# Altium schematic symbol library ESP8266V1.2.SCHLIB: 15 symbols
Pins are listed as number, name and electrical type; pins without a type are passive.

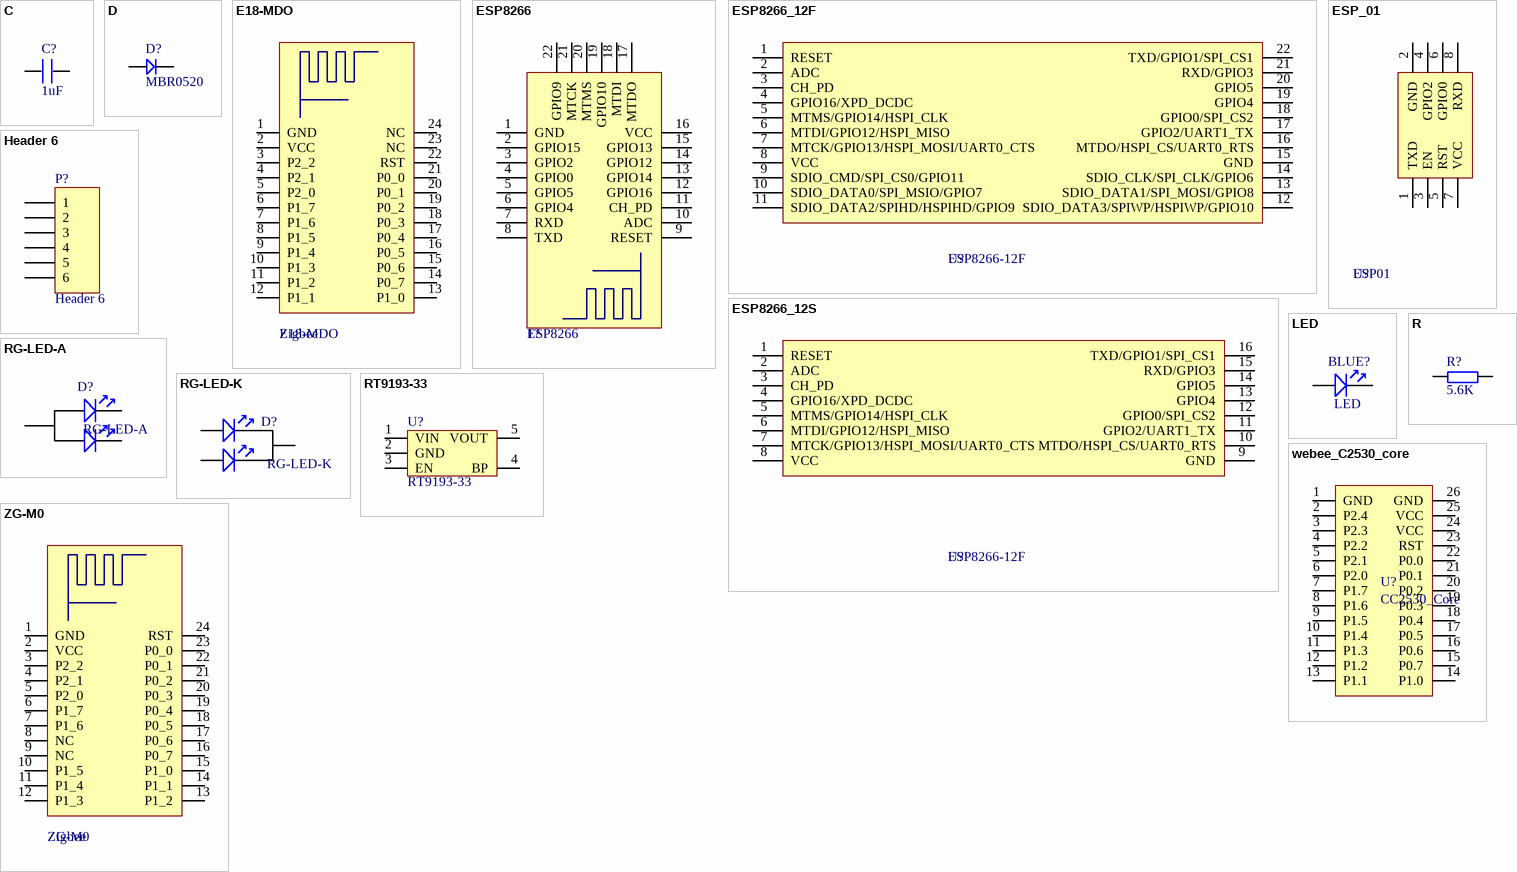
[diagram p0: symbols C to ZG-M0]

## C
designator C?, comment 1uF
footprint 0603P
footprint 0805
footprint CC5.08 (CAP0.1)
footprint CC4.572 (222/332)
footprint 1206
footprint 1210
footprint CC6.096
footprint CC7.62
footprint CVAR (4MM*6.6MM)
pins: 1, 2

## D
designator D?, comment MBR0520
1N4148
footprint SOD-123
footprint DIODE_SOP (4148)
footprint DIODE-L (6A10)
footprint DIODE-M (1N5822)
footprint DIODE_S (1N4007)
footprint DIODE_3*5.3 (ME:SS14/SS24;L:5.3mm;W:3mm;)
footprint DIODE_4*5.6 (ME:RS2J.L:5.6mm;W:4mm)
footprint DIODE_6.2*8.13 (ME:RS2J.L:8.13mm;W:6.2mm)
pins: 1, 2

## E18-MDO
designator E18-MDO, comment Zigbee
Zigbee模块
footprint E18-MD0 (Connector; Header; 8 Position)
pins: 1 GND, 2 VCC, 3 P2_2, 4 P2_1, 5 P2_0, 6 P1_7, 7 P1_6, 8 P1_5, 9 P1_4, 10 P1_3, 11 P1_2, 12 P1_1, 13 P1_0, 14 P0_7, 15 P0_6, 16 P0_5, 17 P0_4, 18 P0_3, 19 P0_2, 20 P0_1, 21 P0_0, 22 RST, 23 NC, 24 NC

## ESP8266
designator 1?
footprint ESP8266
pins: 1 GND (oe), 2 GPIO15, 3 GPIO2, 4 GPIO0, 5 GPIO5, 6 GPIO4, 7 RXD, 8 TXD, 9 RESET, 10 ADC, 11 CH_PD, 12 GPIO16, 13 GPIO14, 14 GPIO12, 15 GPIO13, 16 VCC, 17 MTDO, 18 MTDI, 19 GPIO10, 20 MTMS, 21 MTCK, 22 GPIO9

## ESP8266_12F
designator U?, comment ESP8266-12F
footprint ESP8266 - 12F
pins: 1 RESET, 2 ADC, 3 CH_PD, 4 GPIO16/XPD_DCDC, 5 MTMS/GPIO14/HSPI_CLK, 6 MTDI/GPIO12/HSPI_MISO, 7 MTCK/GPIO13/HSPI_MOSI/UART0_CTS, 8 VCC, 9 SDIO_CMD/SPI_CS0/GPIO11, 10 SDIO_DATA0/SPI_MSIO/GPIO7, 11 SDIO_DATA2/SPIHD/HSPIHD/GPIO9, 12 SDIO_DATA3/SPIWP/HSPIWP/GPIO10, 13 SDIO_DATA1/SPI_MOSI/GPIO8, 14 SDIO_CLK/SPI_CLK/GPIO6, 15 GND (oe), 16 MTDO/HSPI_CS/UART0_RTS, 17 GPIO2/UART1_TX, 18 GPIO0/SPI_CS2, 19 GPIO4, 20 GPIO5, 21 RXD/GPIO3, 22 TXD/GPIO1/SPI_CS1

## ESP8266_12S
designator U?, comment ESP8266-12F
footprint ESP8266 - 12S
pins: 1 RESET, 2 ADC, 3 CH_PD, 4 GPIO16/XPD_DCDC, 5 MTMS/GPIO14/HSPI_CLK, 6 MTDI/GPIO12/HSPI_MISO, 7 MTCK/GPIO13/HSPI_MOSI/UART0_CTS, 8 VCC, 9 GND (oe), 10 MTDO/HSPI_CS/UART0_RTS, 11 GPIO2/UART1_TX, 12 GPIO0/SPI_CS2, 13 GPIO4, 14 GPIO5, 15 RXD/GPIO3, 16 TXD/GPIO1/SPI_CS1

## ESP_01
designator U?, comment ESP01
footprint HDR2X4
pins: 1 TXD, 2 GND, 3 EN, 4 GPIO2, 5 RST, 6 GPIO0, 7 VCC, 8 RXD

## Header 6
designator P?
Header, 6-Pin; LatestRevisionDate: 17-Jul-2002; LatestRevisionNote: Re-released for DXP Platform.; Publisher: Altium Limited
footprint HDR1X6 (Connector; Header; 6 Position)
signal-integrity model Connector
pins: 1, 2, 3, 4, 5, 6

## LED
designator BLUE?
footprint SMDLED
footprint LED-DIP (PIN:2.54MM;H:5MM;)
pins: 1, 1 R

## R
designator R?, comment 5.6K
footprint 0805
footprint 0603P
footprint RL (10o/0.7uH)
footprint R16.0 (RX/1W)
footprint 1206
footprint 1210
footprint R20.0 (RX/2W)
footprint R10.16 (STD)
footprint RLN9 (13.5mm*5.1mm)
pins: 1, 2

## RG-LED-A
designator D?
footprint RG-LED
footprint LED-DIP (PIN:2.54MM;H:5MM;)
pins: 1, 1 R, 1, 2 GND, 3 G

## RG-LED-K
designator D?
footprint RG-LED
footprint LED-DIP (PIN:2.54MM;H:5MM;)
pins: 1 R, 2 GND, 3 G

## RT9193-33
designator U?
3.3V超低压差LDO
footprint SOT-23-5
pins: 1 VIN, 2 GND, 3 EN, 4 BP, 5 VOUT

## webee_C2530_core
designator U?, comment CC2530_Core
footprint webee_cc2530_core
pins: 1 GND, 2 P2.4, 3 P2.3, 4 P2.2, 5 P2.1, 6 P2.0, 7 P1.7, 8 P1.6, 9 P1.5, 10 P1.4, 11 P1.3, 12 P1.2, 13 P1.1, 14 P1.0, 15 P0.7, 16 P0.6, 17 P0.5, 18 P0.4, 19 P0.3, 20 P0.2, 21 P0.1, 22 P0.0, 23 RST, 24 VCC, 25 VCC, 26 GND

## ZG-M0
designator ZG-M0, comment Zigbee
Zigbee模块
footprint zg_m0
pins: 1 GND, 2 VCC, 3 P2_2, 4 P2_1, 5 P2_0, 6 P1_7, 7 P1_6, 8 NC, 9 NC, 10 P1_5, 11 P1_4, 12 P1_3, 13 P1_2, 14 P1_1, 15 P1_0, 16 P0_7, 17 P0_6, 18 P0_5, 19 P0_4, 20 P0_3, 21 P0_2, 22 P0_1, 23 P0_0, 24 RST